# Altium footprint library RELAY_PAN_CB.PcbLib: 1 footprints
Each footprint in its own frame and in the unit in brackets; x right, y up, seen from the top. Pads: shape width x height; smd on the part's side, far side on the other; paste and mask are expansions set on the pad; w line width, h text height; cw(c..) or ccw(c..) is an arc to the next point about the centre after c.
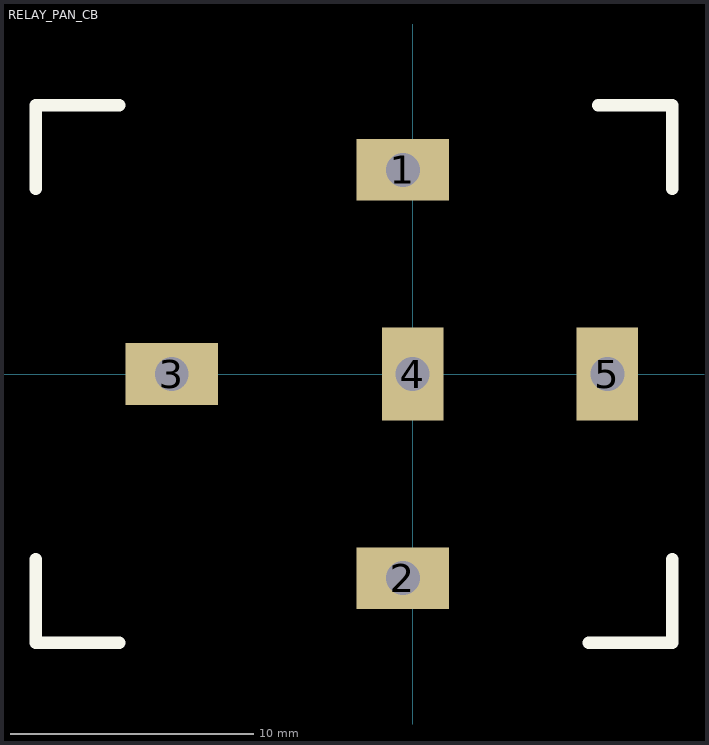
[diagram p0: the footprint, top view; thin cyan lines are the x and y axes]

## RELAY_PAN_CB [mil] "Relay, Panasonic CB Series"
pads (5):
  rect 150x100 hole 55 square: 1(-16,330.5) 2(-16,-330.5) 3(-390,0)
  rect 100x150 hole 55 square: 4(0,0) 5(315,0)
Top Overlay:
  lines w20: -610,-300 -610,-435 -475,-435 ; -610,300 -610,435 -475,435 ; 285,-435 420,-435 420,-300 ; 300,435 420,435 420,300